# EAGLE library part DAC7678 (library ti-dac)
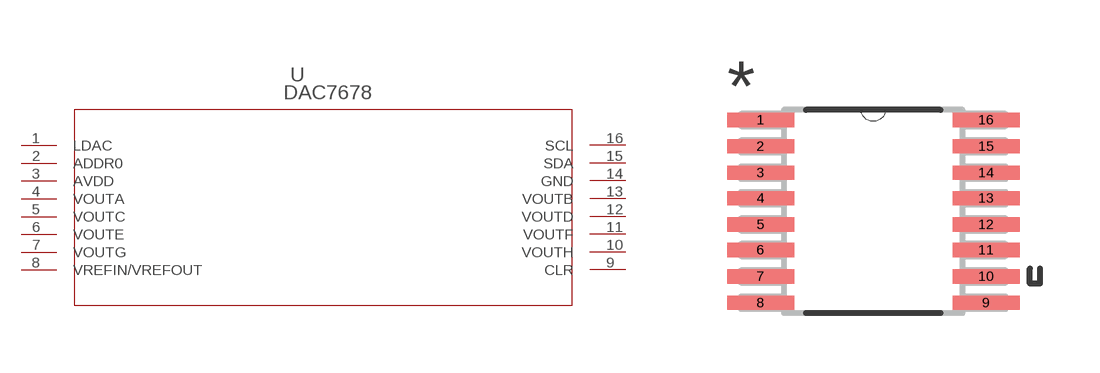
[diagram p0: symbol with the pads of PW16; footprint PW16]

Designator prefix -

## DAC7678  [PW16]
1  LDAC  pas
2  ADDR0  in
3  AVDD  pwr
4  VOUTA  out
5  VOUTC  out
6  VOUTE  out
7  VOUTG  out
8  VREFIN/VREFOUT
9  CLR  in
10  VOUTH  out
11  VOUTF  out
12  VOUTD  out
13  VOUTB  out
14  GND  pwr
15  SDA  in
16  SCL  in

## Footprint PW16 (pad centres in mm)
smd 1.676 x 0.356: 1 -2.819,2.286; 2 -2.819,1.626; 3 -2.819,0.965; 4 -2.819,0.33; 5 -2.819,-0.33; 6 -2.819,-0.965; 7 -2.819,-1.626; 8 -2.819,-2.286; 9 2.819,-2.286; 10 2.819,-1.626; 11 2.819,-0.965; 12 2.819,-0.33; 13 2.819,0.33; 14 2.819,0.965; 15 2.819,1.626; 16 2.819,2.286